# Altium footprint library Resistor3.PcbLib: 1 footprints
Each footprint in its own frame and in the unit in brackets; x right, y up, seen from the top. Pads: shape width x height; smd on the part's side, far side on the other; paste and mask are expansions set on the pad; w line width, h text height; cw(c..) or ccw(c..) is an arc to the next point about the centre after c.
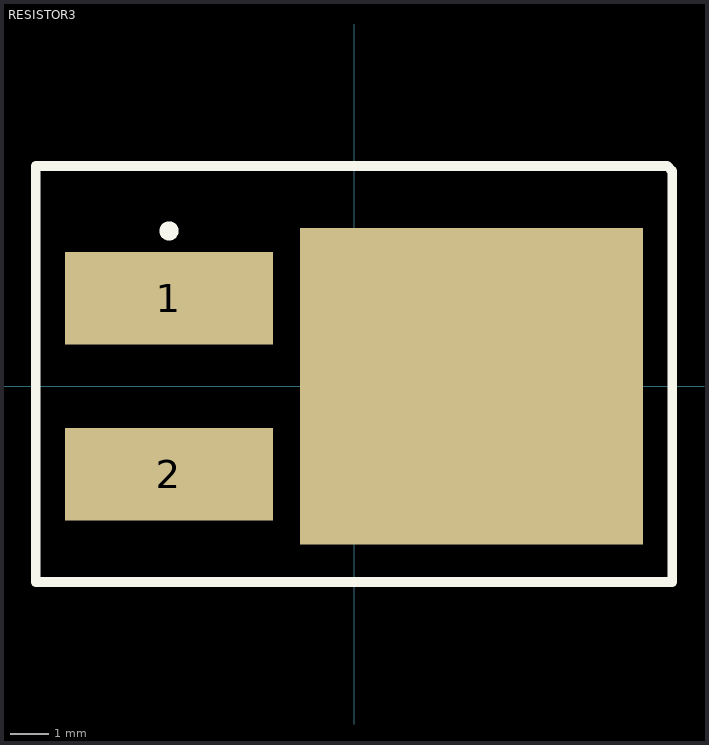
[diagram p0: the footprint, top view; thin cyan lines are the x and y axes]

## RESISTOR3 [mm]
height 2.38
pads (3):
  rect 5.4x2.4 smd: 1(-4.8,2.28) 2(-4.8,-2.28)
  rect 8.9x8.2 smd: ""(3.05,0)
Top Overlay:
  circle w0.25: c-4.8,4.03 r0.125
  lines w0.254: -8.255,-5.08 -8.255,5.715 8.128,5.715 8.255,5.588 8.255,-5.08 -8.255,-5.08